# Altium footprint library M20-8890345.PcbLib: 1 footprints
Each footprint in its own frame and in the unit in brackets; x right, y up, seen from the top. Pads: shape width x height; smd on the part's side, far side on the other; paste and mask are expansions set on the pad; w line width, h text height; cw(c..) or ccw(c..) is an arc to the next point about the centre after c.
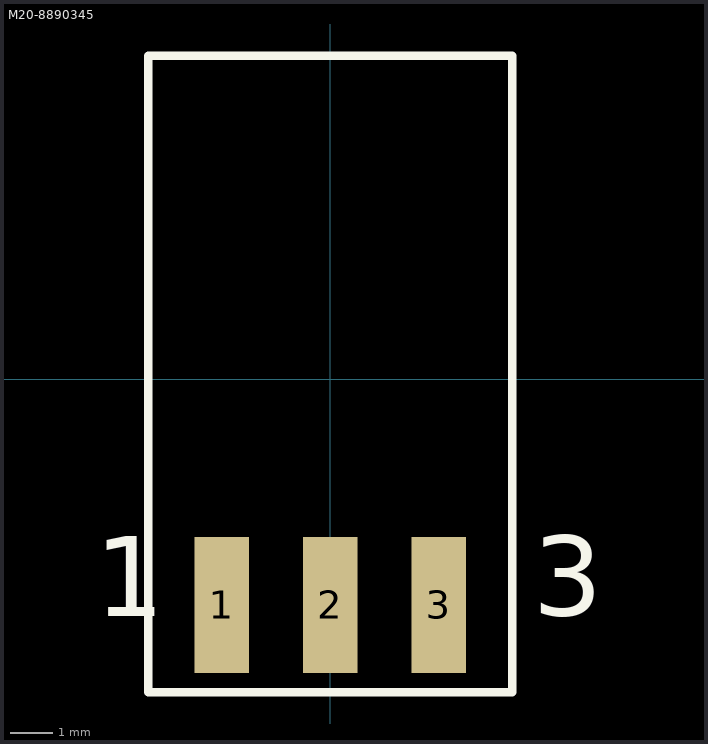
[diagram p0: the footprint, top view; thin cyan lines are the x and y axes]

## M20-8890345 [mm]
pads (3):
  rect 1.27x3.18 smd: 1(-2.54,-5.283) 2(0,-5.283) 3(2.54,-5.283)
Top Overlay:
  lines w0.2: -4.26,-7.324 -4.26,7.565 4.26,7.565 4.26,-7.324 -4.26,-7.324
  text "1" at -5.506,-5.543 h1.88
  text "3" at 4.742,-5.538 h1.88
Top Paste:
  region: -3.175,-3.693 -1.905,-3.693 -1.905,-6.873 -3.175,-6.873
  region: -0.636,-3.693 0.635,-3.693 0.635,-6.884 -0.636,-6.884
  region: 1.907,-3.693 3.175,-3.693 3.175,-6.881 1.907,-6.881
Top Solder:
  region: -3.23,-3.642 -1.854,-3.642 -1.854,-6.932 -3.23,-6.932
  region: -0.686,-3.642 0.686,-3.642 0.686,-6.926 -0.686,-6.926
  region: 1.855,-3.642 3.226,-3.642 3.226,-6.929 1.855,-6.929
3D body "M20-8890345.stp": height 3.06, standoff 0.01, extent -3.81,-6.604 3.81,6.35